# Altium schematic symbol library Lab10.SchLib: 4 symbols
Pins are listed as number, name and electrical type; pins without a type are passive.

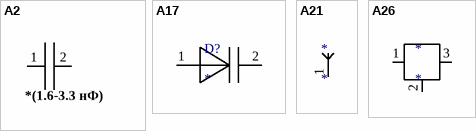
[diagram p0: symbols A2 to A26]

## A2
designator *C?  Parameter 1: *(1.6-3.3 нФ)  (hidden comment: *)
footprint KM6A
pins: 1, 2

## A17
designator D?
footprint КВ121Б
pins: 1, 2

## A21
designator *
footprint ANTENA
pins: 1

## A26
designator *
footprint LM7805
pins: 1, 2, 3